# Altium schematic symbol library cables.SchLib: 4 symbols
Pins are listed as number, name and electrical type; pins without a type are passive.

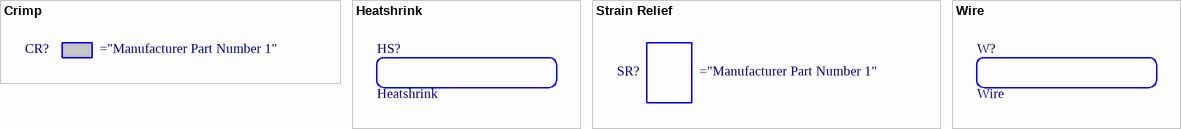
[diagram p0: symbols Crimp to Wire]

## Crimp
designator CR?  (mechanical)
Connector, Crimp

## Heatshrink
designator HS?  (mechanical)

## Strain Relief
designator SR?
Strain Relief

## Wire
designator W?  (mechanical)